# Altium schematic symbol library Fasteners & Fixings.SchLib: 26 symbols
Pins are listed as number, name and electrical type; pins without a type are passive.

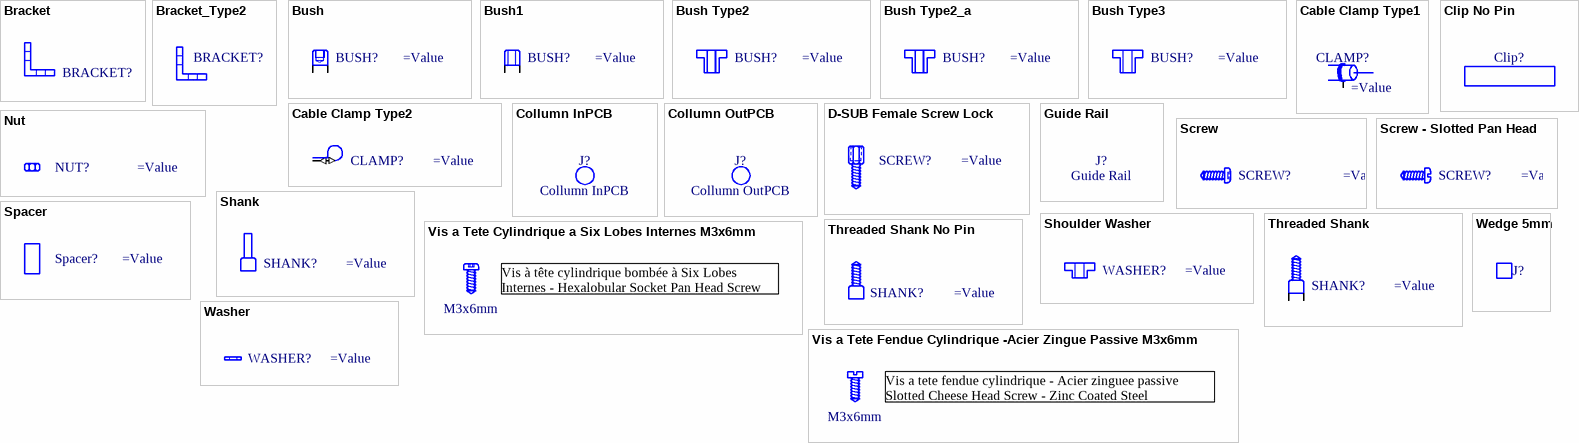
[diagram p0: symbols Bracket to Wedge 5mm]

## Bracket
designator BRACKET?
Bracket

## Bracket_Type2
designator BRACKET?
Bracket_Type2
pins: 1 (io)

## Bush
designator BUSH?
Bush
pins: 1 (io), 1 (io)

## Bush1
designator BUSH?
Bush
pins: 1 (io), 1 (io)

## Bush Type2
designator BUSH?
Threaded Bush

## Bush Type2_a
designator BUSH?
Threaded Bush
pins: 1 (io)

## Bush Type3
designator BUSH?
Threaded Bush

## Cable Clamp Type1
designator CLAMP?
EMC Shield Cable Clamp
pins: 1 (io)

## Cable Clamp Type2
designator CLAMP?
Cable Clamp
pins: 1 (io)

## Clip No Pin
designator Clip?
Clip

## Collumn InPCB
designator J?

## Collumn OutPCB
designator J?

## D-SUB Female Screw Lock
designator SCREW?
D-SUB Female Screw Lock

## Guide Rail
designator J?

## Nut
designator NUT?
Nut

## Screw
designator SCREW?
Screw

## Screw - Slotted Pan Head
designator SCREW?
Slotted Pan Head Screw

## Shank
designator SHANK?
Shank

## Shoulder Washer
designator WASHER?
Shoulder Washer

## Spacer
designator Spacer?
Spacer

## Threaded Shank
designator SHANK?
Threaded Shank
pins: 1 (io), 1 (io)

## Threaded Shank No Pin
designator SHANK?
Threaded Shank No Pin

## Vis a Tete Cylindrique a Six Lobes Internes M3x6mm
designator ?  (value not drawn)  (mechanical)
Vis a Tete Cylindrique a Six Lobes Internes
text: Vis à tête cylindrique bombée à Six Lobes Internes - Hexalobular Socket Pan Head Screw; M3x6mm

## Vis a Tete Fendue Cylindrique -Acier Zingue Passive M3x6mm
designator ?  (value not drawn)  (mechanical)
Vis a Tete Fendue Cylindrique -Acier Zingue M3x6mm
text: Vis a tete fendue cylindrique - Acier zinguee passive / Slotted Cheese Head Screw - Zinc Coated Steel PASSIVATED; M3x6mm

## Washer
designator WASHER?
Washer

## Wedge 5mm
designator J?
Wedge 5mm